# EAGLE library part RV2123-C2 (library n39)
RV 2123-C2: Real Time Clock Module with SPI Bus This RTC IC has been specially designed to achieve an ultra-low power consumption of typically 130nA @ VDD 3.0V in time-keeping mode. The very small SMT ceramic-package combines the 32.768 kHz crystal unit with the CMOS-based oscillator and real-time-clock circuitry. The calendar function tracks year, month, date, and day-of-the-week with built-in century and leap-year flags. The clock function tracks minute and second in 24-hour format. Programmable alarm setting and universal timer functions increase flexibility. This parts comes with visible VCC and GND pins to facilitate battery-backup schematics.
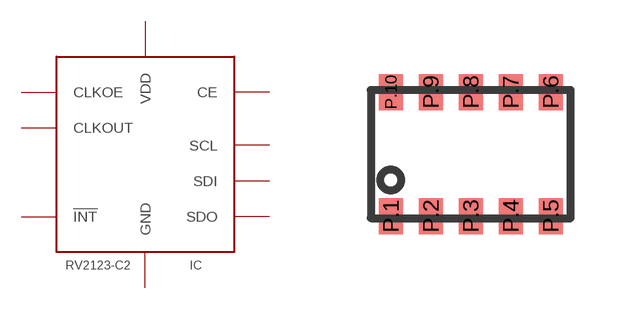
[diagram p13: symbol with the pads of SON_10-PIN; footprint SON_10-PIN]

Designator prefix IC

## RV2123-C2 (REICHELT: RV 2123-C2)  [SON_10-PIN]
P.1  VDD  pwr
P.2  CLKOUT  oc
P.3  SCL  hiz
P.4  SDI  hiz
P.5  SDO  hiz
P.6  GND  pwr
P.7  CE  in
P.8  !INT  oc
P.10  CLKOE  in

## Footprint SON_10-PIN (pad centres in mm)
SON 10 pin 10 pin ceramic package as found in RV--2123-C2 and similar parts.
smd 0.6 x 0.9: P.1 -2,-1.55; P.2 -1,-1.55; P.3 0,-1.55; P.4 1,-1.55; P.5 2,-1.55; P.6 2,1.55; P.7 1,1.55; P.8 0,1.55; P.9 -1,1.55; P.10 -2,1.55